# EAGLE library part HCF4051BEY (library ST_Microelctronics_By_element14_Batch_1)
ANALOG MULTIPLEXER/DEMULTIPLEXER
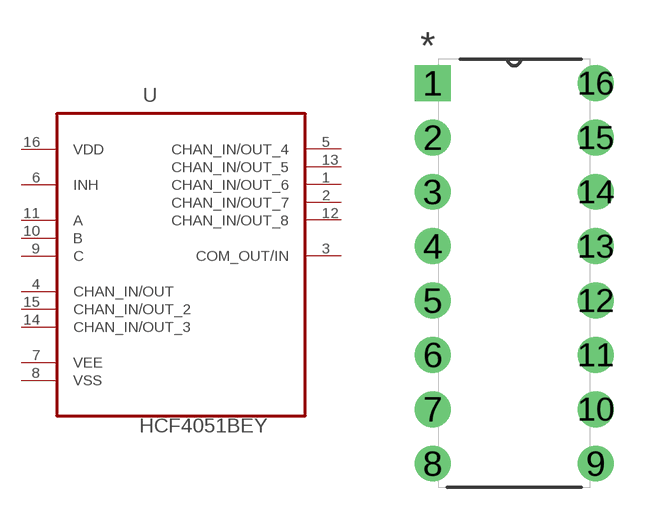
[diagram p14: symbol with the pads of DIP254P762X510-16; footprint DIP254P762X510-16]

Designator prefix U

## HCF4051BEY (MPN: HCF4051BEY; OC_FARNELL: 9755551; OC_NEWARK: 89K0572; PACKAGE: PDIP-16; SUPPLIER: STMICROELECTRONICS)  [DIP254P762X510-16]
1  CHAN_IN/OUT_6
2  CHAN_IN/OUT_7
3  COM_OUT/IN
4  CHAN_IN/OUT
5  CHAN_IN/OUT_4
6  INH  pas
7  VEE  pwr
8  VSS  pwr
9  C  in
10  B  in
11  A  in
12  CHAN_IN/OUT_8
13  CHAN_IN/OUT_5
14  CHAN_IN/OUT_3
15  CHAN_IN/OUT_2
16  VDD  pwr

## Footprint DIP254P762X510-16 (pad centres in mm)
drill 1.118 square: 1 -7.62,17.78
drill 1.118: 2 -7.62,15.24; 3 -7.62,12.7; 4 -7.62,10.16; 5 -7.62,7.62; 6 -7.62,5.08; 7 -7.62,2.54; 8 -7.62,0; 9 0,0; 10 0,2.54; 11 0,5.08; 12 0,7.62; 13 0,10.16; 14 0,12.7; 15 0,15.24; 16 0,17.78